# Altium footprint library PiezoControlBoard.PcbLib: 15 footprints
Each footprint in its own frame and in the unit in brackets; x right, y up, seen from the top. Pads: shape width x height; smd on the part's side, far side on the other; paste and mask are expansions set on the pad; w line width, h text height; cw(c..) or ccw(c..) is an arc to the next point about the centre after c.
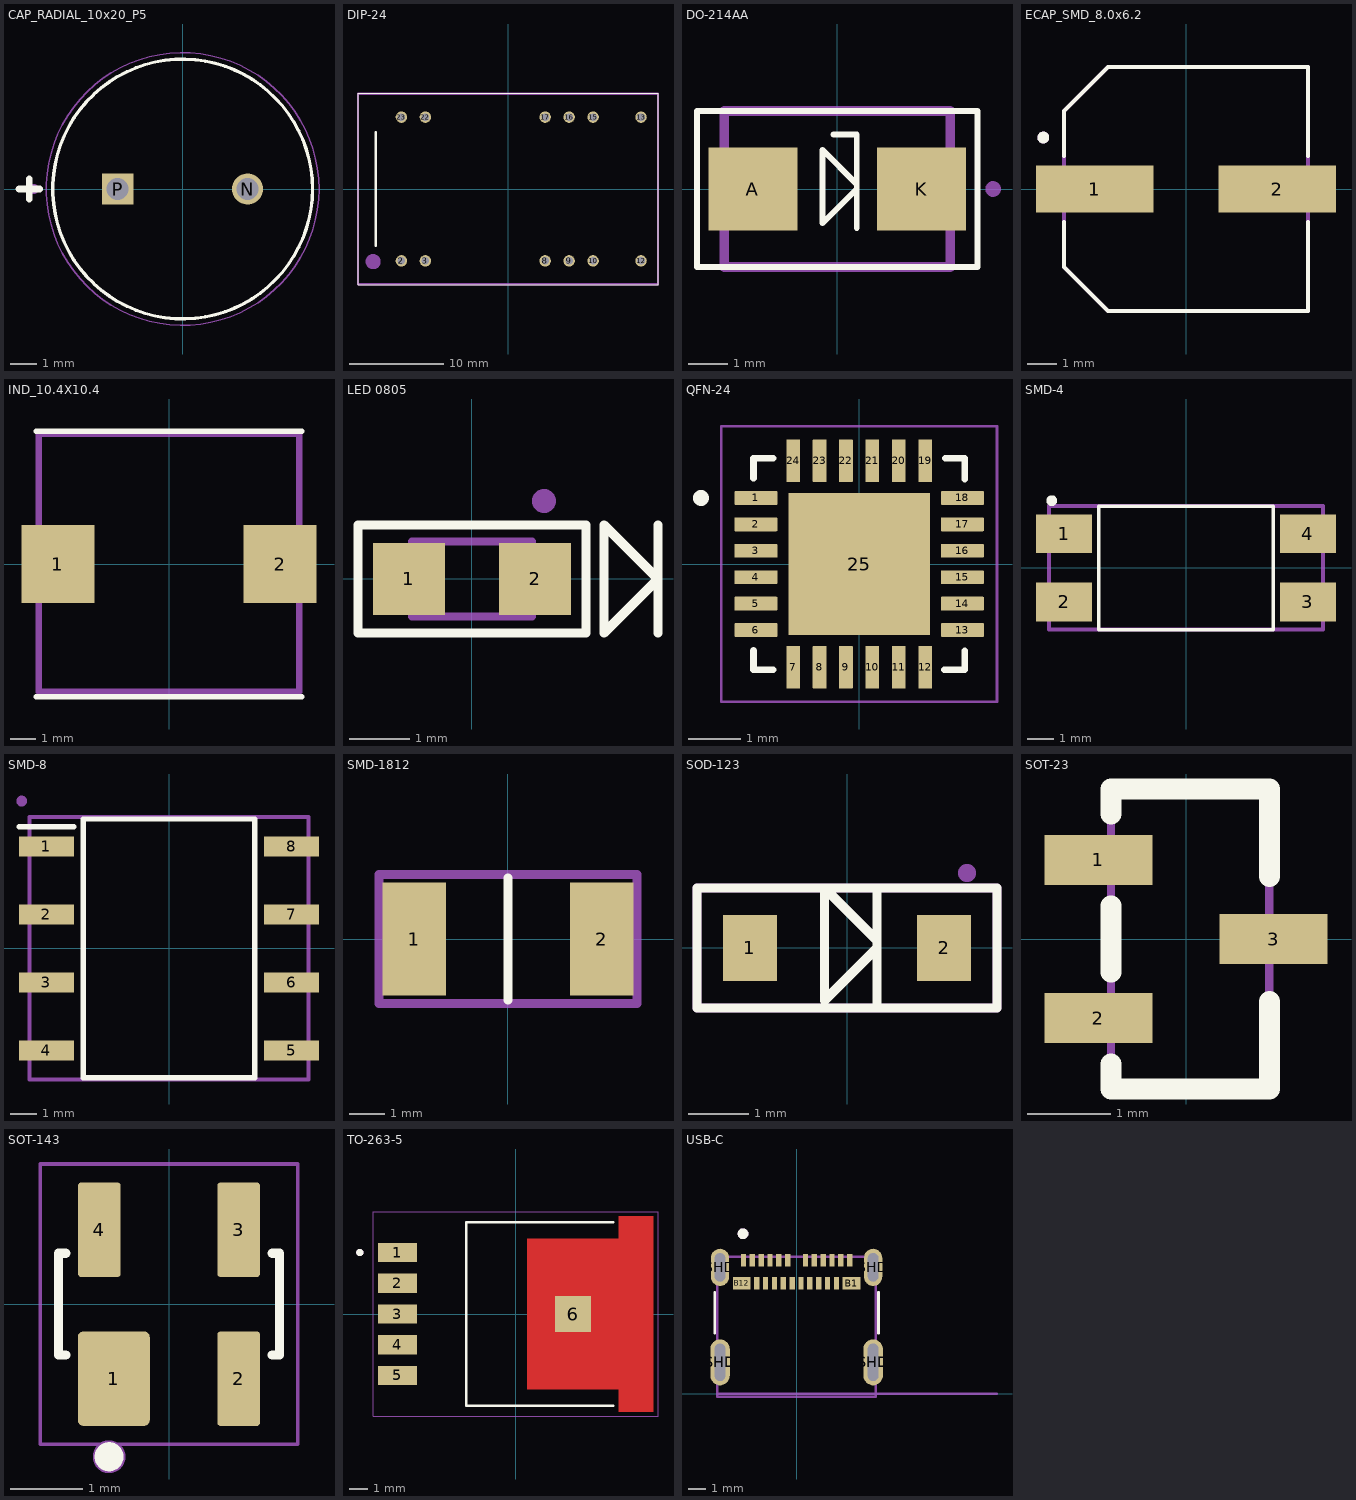
[diagram p0: the footprints below, top view; thin cyan lines are the x and y axes]

## CAP_RADIAL_10x20_P5 [mm]
pads (2):
  round 1.2 hole 0.85: N(2.5,0)
  rect 1.2x1.2 hole 0.85: P(-2.5,0)
Top Overlay:
  circle w0.127: c0,0 r5
  lines w0.254: -6.3,0 -5.5,0 ; -5.9,-0.4 -5.9,0.4
Mechanical 29:
  circle w0.2: c-5.75,0 r0.1
  circle w0.05: c0,0 r5.25
  text ".Designator" at -7.546,0.862 h1.52
3D body "EEU-FR1V681.STEP": height 20.01, standoff -16.99, extent -5,-5 5,5

## DIP-24 [mm]
pads (12):
  round 1.22 hole 0.81: 2(-11.3,-7.62) 3(-8.76,-7.62) 8(3.94,-7.62) 9(6.48,-7.62) 10(9.02,-7.62) 12(14.1,-7.62) 13(14.1,7.62) 15(9.02,7.62) 16(6.48,7.62) 17(3.94,7.62) 22(-8.76,7.62) 23(-11.3,7.62)
Top Overlay:
  lines w0.127: -15.9,-10.15 15.9,-10.15 15.9,10.15 -15.9,10.15 -15.9,-10.15
  lines w0.254: -14,-6 -14,6
Mechanical 29:
  circle w1: c-14.3,-7.7 r0.3
  lines w0.254: -15.9,-10.1 -15.9,10.1 15.9,10.1 15.9,-10.1 -15.9,-10.1
  text ".Designator" at -7.446,-0.038 h1.52
3D body "R24-150B.STEP": height 9.4, standoff -4.1, extent -15.773,-10.15 16.027,10.15

## DO-214AA [mm]
pads (2):
  rect 2.28x2.12 smd paste+0 mask+0.102: A(-2.165,0) K(2.165,0)
Top Overlay:
  lines w0.15: -0.1,1.4 0.5,1.4 0.5,1 0.5,-0.75 0.5,-1 ; 0.5,0.063 0.5,0 ; 0.5,0 0.5,0.125 -0.375,1 -0.375,-0.875 0.5,0 ; -3.6,-2 3.6,-2 3.6,2 -3.6,2 -3.6,-2
Mechanical 13:
  circle w0.2: c4,0 r0.1
Mechanical 29:
  circle w0.2: c4,0 r0.1
  lines w0.254: -2.9,-2 2.9,-2 2.9,2 -2.9,2 -2.9,-2
  text ".Designator" at -2.6,-0.133 h0.5
3D body "SMBJ36A.STEP": height 2.66, standoff 0.01, extent -2.67,-1.813 2.67,1.813

## ECAP_SMD_8.0x6.2 [mm]
pads (2):
  rect 4x1.6 smd: 1(-3.1,0) 2(3.1,0)
Top Overlay:
  circle w0.2: c-4.85,1.75 r0.1
  lines w0.127: -4.15,-1.12 -4.15,-2.65 -2.65,-4.15 4.15,-4.15 4.15,-1.12 ; -4.15,1.12 -4.15,2.65 -2.65,4.15 4.15,4.15 4.15,1.12
Mechanical 29:
  circle w0.2: c-4.85,1.75 r0.1
  lines w0.127: -4.15,-2.65 -4.15,2.65 -2.65,4.15 4.15,4.15 4.15,-4.15 -2.65,-4.15 -4.15,-2.65
  text ".Designator" at -3,-0.1 h0.6
3D body "EEEFK1H470P.STEP": height 6.21, standoff 0.01, extent -4.5,-4.15 4.5,4.15

## IND_10.4X10.4 [mm]
pads (2):
  rect 2.85x3.05 smd: 1(-4.35,0) 2(4.35,0)
Top Overlay:
  lines w0.2: -5.2,-5.2 5.2,-5.2 ; -5.2,5.2 5.2,5.2
Mechanical 29:
  lines w0.254: -5.1,-5 -5.1,5.1 5.1,5.1 5.1,-5 -5.1,-5
  text ".Designator" at -7.446,-0.038 h1.52
3D body "B82464P4153M000.stp": height 4.71, standoff 0.01, extent -5,-5 5,5

## LED 0805 [mm]
pads (2):
  rect 1.2x1.2 smd: 1(-1.05,0) 2(1.05,0)
Top Overlay:
  lines w0.15: 1.9,0.8 1.9,0.9 ; 3.1,-0.9 3.1,0.9 ; 1.9,0.9 -1.9,0.9 -1.9,-0.9 1.9,-0.9 1.9,0.9 ; 3.1,0 2.2,-0.9 2.2,0.9 3.1,0 ; 3.1,0 3.1,0
Mechanical 13:
  circle w0.2: c1.2,1.3 r0.1
Mechanical 29:
  lines w0.127: -1,-0.625 1,-0.625 1,0.625 -1,0.625 -1,-0.625
  text ".Designator" at -1.27,-0.053 h0.5
3D body "LED0805.STEP": height 1.1, standoff 0, extent -1,-0.625 1,0.625

## QFN-24 [mm]
pads (25):
  rrect10% 0.81x0.26 smd: 1(-1.955,1.25) 2(-1.955,0.75) 3(-1.955,0.25) 4(-1.955,-0.25) 5(-1.955,-0.75) 6(-1.955,-1.25) 13(1.955,-1.25) 14(1.955,-0.75) 15(1.955,-0.25) 16(1.955,0.25) 17(1.955,0.75) 18(1.955,1.25)
  rrect10% 0.26x0.81 smd: 7(-1.25,-1.955) 8(-0.75,-1.955) 9(-0.25,-1.955) 10(0.25,-1.955) 11(0.75,-1.955) 12(1.25,-1.955) 19(1.25,1.955) 20(0.75,1.955) 21(0.25,1.955) 22(-0.25,1.955) 23(-0.75,1.955) 24(-1.25,1.955)
  rect 2.68x2.68 smd paste-2: 25(0,0)
Top Overlay:
  circle w0.15: c-2.996,1.25 r0.075
  lines w0.127: -2,-1.639 -2,-2 -1.625,-2 ; -2,1.623 -2,2 -1.63,2 ; 1.612,-2 2,-2 2,-1.643 ; 1.628,2 2,2 2,1.606
Top Paste:
  region: 1.09,-1.09 0.13,-1.09 0.13,-0.13 1.09,-0.13
  region: -0.13,-1.092 -1.092,-1.092 -1.092,-0.13 -0.13,-0.13
  region: 1.09,0.13 0.13,0.13 0.13,1.09 1.09,1.09
  region: -0.13,0.13 -1.091,0.13 -1.091,1.09 -0.13,1.09
Mechanical 29:
  lines w0.05: -2.61,-2.61 -2.61,2.61 2.61,2.61 2.61,-2.61 -2.61,-2.61
  text ".Designator" at -3.454,-0.616 h2
3D body "CP2104.STEP": height 0.81, standoff 0.01, extent -2,-2 2,2

## SMD-4 [mm]
pads (4):
  rect 2.09x1.44 smd: 1(-4.54,1.27) 2(-4.54,-1.27) 3(4.54,-1.27) 4(4.54,1.27)
Top Overlay:
  circle w0.2: c-5,2.5 r0.1
  lines w0.127: -3.25,-2.3 3.25,-2.3 3.25,2.3 -3.25,2.3 -3.25,-2.3
Mechanical 29:
  lines w0.15: -5.1,-2.3 -5.1,2.3 5.1,2.3 5.1,-2.3 -5.1,-2.3
  text ".Designator" at -3.2,-0.277 h1.5
3D body "FOD817BSD.STEP": height 3.85, standoff 0, extent -5.08,-2.3 5.08,2.3

## SMD-8 [mm]
pads (8):
  rect 2.05x0.75 smd: 1(-4.575,3.81) 2(-4.575,1.27) 3(-4.575,-1.27) 4(-4.575,-3.81) 5(4.575,-3.81) 6(4.575,-1.27) 7(4.575,1.27) 8(4.575,3.81)
Top Overlay:
  lines w0.2: -5.6,4.535 -3.55,4.535 ; -3.2,-4.828 3.2,-4.828 3.2,4.828 -3.2,4.828 -3.2,-4.828
Mechanical 29:
  circle w0.2: c-5.5,5.5 r0.1
  lines w0.15: -5.2,-4.9 5.2,-4.9 5.2,4.9 -5.2,4.9 -5.2,-4.9
  text ".Designator" at -3.5,0.223 h1.5
3D body "HCPL2731SD.stp": height 5.08, standoff 0, extent -5.15,-4.828 5.15,4.828

## SMD-1812 [mm]
pads (2):
  rect 1.78x3.15 smd: 1(-2.615,0) 2(2.615,0)
Top Overlay:
  lines w0.254: 0,-1.7 0,1.7
Mechanical 29:
  lines w0.254: -3.6,-1.8 -3.6,1.8 3.6,1.8 3.6,-1.8 -3.6,-1.8
  text ".Designator" at -4.175,-0.467 h1
3D body "1812L020_60DR.stp": height 1.25, standoff 0, extent -2.275,-1.625 2.275,1.625

## SOD-123 [mm]
pads (2):
  rect 0.9x1.1 smd: 1(-1.62,0) 2(1.62,0)
Top Overlay:
  lines w0.15: 0.5,-1 0.5,-0.75 0.5,1 ; 0.5,0.063 0.5,0 ; 0.5,0 0.5,0.125 -0.375,1 -0.375,-0.875 0.5,0 ; -2.5,-1 2.5,-1 2.5,1 -2.5,1 -2.5,-1
Mechanical 29:
  circle w0.2: c2,1.25 r0.05
  lines w0.15: -2.5,-1 -2.5,1 2,1 2.5,1 2.5,-1 -2.5,-1
  text ".Designator" at -3.644,-0.253 h2
3D body "1N5819HW.STEP": height 1.5, standoff -0.03, extent -1.825,-0.775 1.825,0.775

## SOT-23 [mm]
pads (3):
  rect 1.3x0.6 smd: 1(-1.05,0.95) 2(-1.05,-0.95) 3(1.05,0)
Top Overlay:
  lines w0.25: -0.9,-1.5 -0.9,-1.8 1,-1.8 1,-0.75 ; -0.9,-0.4 -0.9,0.4 ; -0.9,1.5 -0.9,1.8 1,1.8 1,0.75
Mechanical 29:
  lines w0.1: -0.9,-1.8 -0.9,1.5 -0.9,1.8 1,1.8 1,-1.8 -0.9,-1.8
  text ".Designator" at -2.075,-0.367 h1
3D body "SM712.TCT.step": height 1.21, standoff 0.01, extent -1.185,-1.45 1.185,1.45

## SOT-143 [mm]
pads (4):
  rrect15% 0.99x1.3 smd: 1(-0.76,-1.025)
  rrect15% 0.59x1.3 smd: 2(0.96,-1.025) 3(0.96,1.025) 4(-0.96,1.025)
Top Overlay:
  circle w0.2: c-0.825,-2.1 r0.1
  lines w0.127: -1.42,-0.7 -1.52,-0.7 -1.52,0.7 -1.42,0.7 ; 1.42,-0.7 1.52,-0.7 1.52,0.7 1.42,0.7
Mechanical 29:
  circle w0.25: c-0.825,-2.1 r0.1
  lines w0.05: -1.77,-1.93 1.77,-1.93 1.77,1.93 -1.77,1.93 -1.77,-1.93
  text ".Designator" at -3.884,-0.364 h2
3D body "SP0503BAHTG.STEP": height 1.23, standoff 0.01, extent -1.46,-1.185 1.46,1.185

## TO-263-5 [mm]
pads (6):
  rect 2.16x1.07 smd paste+0 mask+0.102: 1(-6.545,3.4) 2(-6.545,1.7) 3(-6.545,0) 4(-6.545,-1.7) 5(-6.545,-3.4)
  rect 2x2 smd paste-2 mask+0: 6(3.175,0)
Top Layer:
  region: 7.625,-5.4 5.715,-5.4 5.715,-4.165 0.635,-4.165 0.635,4.165 5.715,4.165 5.715,5.4 7.625,5.4
Top Overlay:
  circle w0.2: c-8.625,3.4 r0.1
  lines w0.127: 5.395,-5.08 -2.735,-5.08 -2.735,5.08 5.395,5.08
Mechanical 29:
  circle w0.2: c-8.625,3.4 r0.1
  lines w0.05: -7.875,-5.65 7.875,-5.65 7.875,5.65 -7.875,5.65 -7.875,-5.65
  text ".Designator" at -4.475,-0.467 h1
3D body "LM2575HVS-12_NOPB.STEP": height 4.77, standoff -0.03, extent -7.175,-5.08 7.175,5.08

## USB-C [mm]
pads (28):
  rect 0.298x0.7 smd mask+0.064: A1(-3,7.54) A2(-2.5,7.54) A3(-2,7.54) A4(-1.5,7.54) A5(-1,7.54) A6(-0.5,7.54) A7(0.5,7.54) A8(1,7.54) A9(1.5,7.54) A10(2,7.54) A11(2.5,7.54) A12(3,7.54) B2(2.25,6.24) B3(1.75,6.24) B4(1.25,6.24) B5(0.75,6.24) B6(0.25,6.24) B7(-0.25,6.24) B8(-0.75,6.24) B9(-1.25,6.24) B10(-1.75,6.24) B11(-2.25,6.24)
  rect 0.998x0.7 smd mask+0.064: B1(3.1,6.24) B12(-3.1,6.24)
  oval 1.1x2.6 hole 0.6 slot 2.1 at 90 deg mask+0.064: SHD(-4.32,1.77) SHD(4.32,1.77)
  oval 1.036x2.1 hole 0.6 slot 1.6 at 90 deg mask+0.064: SHD(-4.32,7.13) SHD(4.32,7.13)
Top Overlay:
  circle w0.3: c-3.025,9.025 r0.15
  lines w0.15: -4.62,3.42 -4.62,5.72 ; 4.62,3.42 4.62,5.72
Mechanical 29:
  circle w0.3: c-3.025,9.025 r0.15
  lines w0.13: -4.47,0 4.47,0 ; 11.31,0 4.47,0 ; 4.47,0 4.47,-0.18 -4.47,-0.18 -4.47,7.72 4.47,7.72 4.47,0
  text ".Designator" at -4.475,3.798 h2
  text "PCB Edge" at 5.4,0.27 h1
3D body "105450-0101.STEP": height 3.21, standoff -0.89, extent -4.42,-0.13 4.52,7.77